# EAGLE library part PQXXDZ (library v-reg)
VOLTAGE REGULATOR Sharp PQxxDZ51J00H Series/PQxxDZ11J00H Series PQ3DZ53J000H/PQ3DZ13J000H
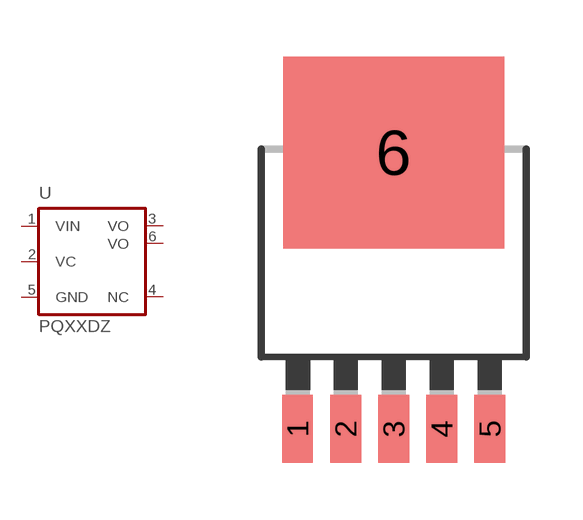
[diagram p18: symbol with the pads of SC63-5; footprint SC63-5]

Designator prefix U

## PQXXDZ  [SC63-5]
1  VIN  in
2  VC  in
3  VO  pas
4  NC  pas
5  GND  pwr
6  VO  pas

## Footprint SC63-5 (pad centres in mm)
SO63-5 Sharp
smd 0.813 x 1.8: 1 -2.54,-5.397; 2 -1.27,-5.397; 3 0,-5.397; 4 1.27,-5.397; 5 2.54,-5.397
smd 5.842 x 5.08: 6 0,1.905